# EAGLE library part MY_BOARD (library Stworzone3)
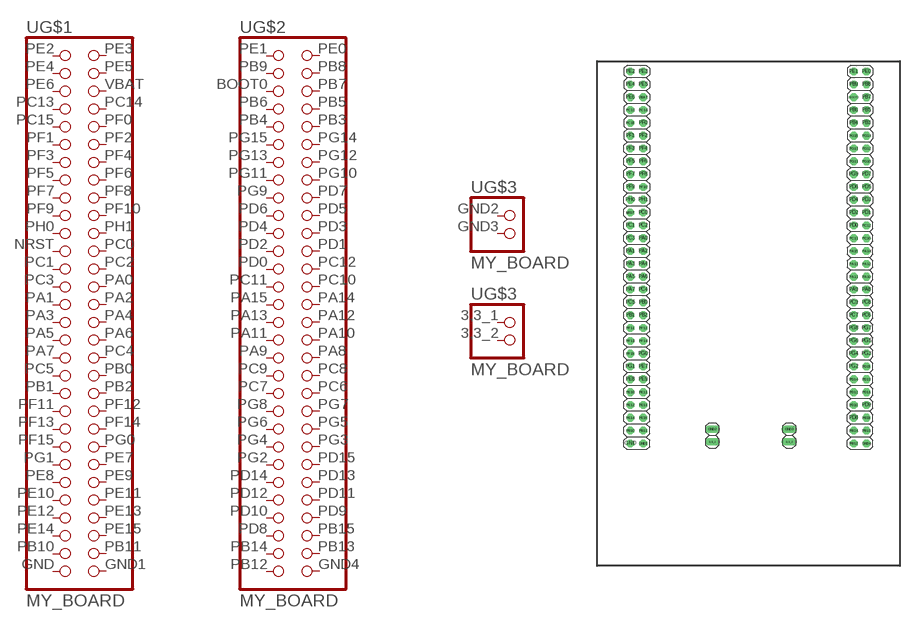
[diagram p2: symbol with the pads of MY_BOARD; footprint MY_BOARD]

Designator prefix -; gates G$1=MY_BOARD G$2=MY_BOARD_B G$3=MY_BOARD_C

## MY_BOARD  [MY_BOARD]
3,3_1  G$3:1  pas
3,3_2  G$3:2  pas
BOOT0  G$2:5  pas
GND  G$1:59  pas
GND1  G$1:60  pas
GND2  G$3:3  pas
GND3  G$3:4  pas
GND4  G$2:60  pas
NRST  G$1:23  pas
PA0  G$1:28  pas
PA1  G$1:29  pas
PA2  G$1:30  pas
PA3  G$1:31  pas
PA4  G$1:32  pas
PA5  G$1:33  pas
PA6  G$1:34  pas
PA7  G$1:35  pas
PA8  G$2:36  pas
PA9  G$2:35  pas
PA10  G$2:34  pas
PA11  G$2:33  pas
PA12  G$2:32  pas
PA13  G$2:31  pas
PA14  G$2:30  pas
PA15  G$2:29  pas
PB0  G$1:38  pas
PB1  G$1:39  pas
PB2  G$1:40  pas
PB3  G$2:10  pas
PB4  G$2:9  pas
PB5  G$2:8  pas
PB6  G$2:7  pas
PB7  G$2:6  pas
PB8  G$2:4  pas
PB9  G$2:3  pas
PB10  G$1:57  pas
PB11  G$1:58  pas
PB12  G$2:59  pas
PB13  G$2:58  pas
PB14  G$2:57  pas
PB15  G$2:56  pas
PC0  G$1:24  pas
PC1  G$1:25  pas
PC2  G$1:26  pas
PC3  G$1:27  pas
PC4  G$1:36  pas
PC5  G$1:37  pas
PC6  G$2:40  pas
PC7  G$2:39  pas
PC8  G$2:38  pas
PC9  G$2:37  pas
PC10  G$2:28  pas
PC11  G$2:27  pas
PC12  G$2:26  pas
PC13  G$1:7  pas
PC14  G$1:8  pas
PC15  G$1:9  pas
PD0  G$2:25  pas
PD1  G$2:24  pas
PD2  G$2:23  pas
PD3  G$2:22  pas
PD4  G$2:21  pas
PD5  G$2:20  pas
PD6  G$2:19  pas
PD7  G$2:18  pas
PD8  G$2:55  pas
PD9  G$2:54  pas
PD10  G$2:53  pas
PD11  G$2:52  pas
PD12  G$2:51  pas
PD13  G$2:50  pas
PD14  G$2:49  pas
PD15  G$2:48  pas
PE0  G$2:2  pas
PE1  G$2:1  pas
PE2  G$1:1  pas
PE3  G$1:2  pas
PE4  G$1:3  pas
PE5  G$1:4  pas
PE6  G$1:5  pas
PE7  G$1:48  pas
PE8  G$1:49  pas
PE9  G$1:50  pas
PE10  G$1:51  pas
PE11  G$1:52  pas
PE12  G$1:53  pas
PE13  G$1:54  pas
PE14  G$1:55  pas
PE15  G$1:56  pas
PF0  G$1:10  pas
PF1  G$1:11  pas
PF2  G$1:12  pas
PF3  G$1:13  pas
PF4  G$1:14  pas
PF5  G$1:15  pas
PF6  G$1:16  pas
PF7  G$1:17  pas
PF8  G$1:18  pas
PF9  G$1:19  pas
PF10  G$1:20  pas
PF11  G$1:41  pas
PF12  G$1:42  pas
PF13  G$1:43  pas
PF14  G$1:44  pas
PF15  G$1:45  pas
PG0  G$1:46  pas
PG1  G$1:47  pas
PG2  G$2:47  pas
PG3  G$2:46  pas
PG4  G$2:45  pas
PG5  G$2:44  pas
PG6  G$2:43  pas
PG7  G$2:42  pas
PG8  G$2:41  pas
PG9  G$2:17  pas
PG10  G$2:16  pas
PG11  G$2:15  pas
PG12  G$2:14  pas
PG13  G$2:13  pas
PG14  G$2:12  pas
PG15  G$2:11  pas
PH0  G$1:21  pas
PH1  G$1:22  pas
VBAT  G$1:6  pas

## Footprint MY_BOARD (pad centres in mm)
drill 1.016 long: 3,3_1 12.34,-5.43; 3,3_2 27.57,-5.43; GND2 12.34,-2.89; GND3 27.57,-2.89
drill 1.016 octagon: BOOT0 40.34,62.84; GND -3.9,-5.74; GND1 -1.36,-5.74; GND4 42.88,-5.74; NRST -3.9,39.98; PA0 -1.36,34.9; PA1 -3.9,32.36; PA2 -1.36,32.36; PA3 -3.9,29.82; PA4 -1.36,29.82; PA5 -3.9,27.28; PA6 -1.36,27.28; PA7 -3.9,24.74; PA8 42.88,24.74; PA9 40.34,24.74; PA10 42.88,27.28; PA11 40.34,27.28; PA12 42.88,29.82; PA13 40.34,29.82; PA14 42.88,32.36; PA15 40.34,32.36; PB0 -1.36,22.2; PB1 -3.9,19.66; PB2 -1.36,19.66; PB3 42.88,57.76; PB4 40.34,57.76; PB5 42.88,60.3; PB6 40.34,60.3; PB7 42.88,62.84; PB8 42.88,65.38; PB9 40.34,65.38; PB10 -3.9,-3.2; PB11 -1.36,-3.2; PB12 40.34,-5.74; PB13 42.88,-3.2; PB14 40.34,-3.2; PB15 42.88,-0.66; PC0 -1.36,39.98; PC1 -3.9,37.44; PC2 -1.36,37.44; PC3 -3.9,34.9; PC4 -1.36,24.74; PC5 -3.9,22.2; PC6 42.88,19.66; PC7 40.34,19.66; PC8 42.88,22.2; PC9 40.34,22.2; PC10 42.88,34.9; PC11 40.34,34.9; PC12 42.88,37.44; PC13 -3.9,60.3; PC14 -1.36,60.3; PC15 -3.9,57.76; PD0 40.34,37.44; PD1 42.88,39.98; PD2 40.34,39.98; PD3 42.88,42.52; PD4 40.34,42.52; PD5 42.88,45.06; PD6 40.34,45.06; PD7 42.88,47.6; PD8 40.34,-0.66; PD9 42.88,1.88; PD10 40.34,1.88; PD11 42.88,4.42; PD12 40.34,4.42; PD13 42.88,6.96; PD14 40.34,6.96; PD15 42.88,9.5; PE0 42.88,67.92; PE1 40.34,67.92; PE2 -3.9,67.92; PE3 -1.36,67.92; PE4 -3.9,65.38; PE5 -1.36,65.38; PE6 -3.9,62.84; PE7 -1.36,9.5; PE8 -3.9,6.96; PE9 -1.36,6.96; PE10 -3.9,4.42; PE11 -1.36,4.42; PE12 -3.9,1.88; PE13 -1.36,1.88; PE14 -3.9,-0.66; PE15 -1.36,-0.66; PF0 -1.36,57.76; PF1 -3.9,55.22; PF2 -1.36,55.22; PF3 -3.9,52.68; PF4 -1.36,52.68; PF5 -3.9,50.14; PF6 -1.36,50.14; PF7 -3.9,47.6; PF8 -1.36,47.6; PF9 -3.9,45.06; PF10 -1.36,45.06; PF11 -3.9,17.12; PF12 -1.36,17.12; PF13 -3.9,14.58; PF14 -1.36,14.58; PF15 -3.9,12.04; PG0 -1.36,12.04; PG1 -3.9,9.5; PG2 40.34,9.5; PG3 42.88,12.04; PG4 40.34,12.04; PG5 42.88,14.58; PG6 40.34,14.58; PG7 42.88,17.12; PG8 40.34,17.12; PG9 40.34,47.6; PG10 42.88,50.14; PG11 40.34,50.14; PG12 42.88,52.68; PG13 40.34,52.68; PG14 42.88,55.22; PG15 40.34,55.22; PH0 -3.9,42.52; PH1 -1.36,42.52; VBAT -1.36,62.84